# Altium footprint library QFN-40.PcbLib: 1 footprints
Each footprint in its own frame and in the unit in brackets; x right, y up, seen from the top. Pads: shape width x height; smd on the part's side, far side on the other; paste and mask are expansions set on the pad; w line width, h text height; cw(c..) or ccw(c..) is an arc to the next point about the centre after c.
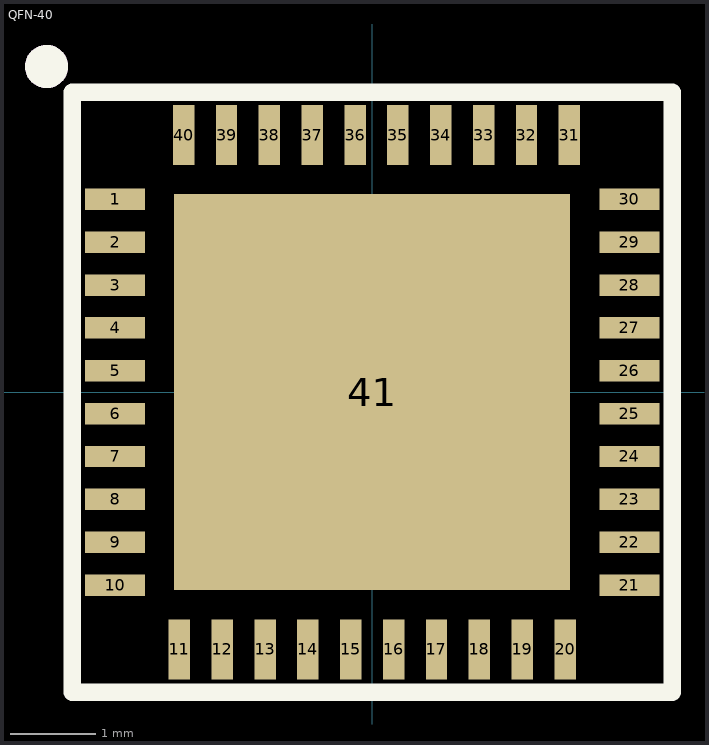
[diagram p0: the footprint, top view; thin cyan lines are the x and y axes]

## QFN-40 [mm]
height 0.55
pads (41):
  rect 0.7x0.25 smd mask+0.05: 1(-3,2.25) 2(-3,1.75) 3(-3,1.25) 4(-3,0.75) 5(-3,0.25) 6(-3,-0.25) 7(-3,-0.75) 8(-3,-1.25) 9(-3,-1.75) 10(-3,-2.25) 21(3,-2.25) 22(3,-1.75) 23(3,-1.25) 24(3,-0.75) 25(3,-0.25) 26(3,0.25) 27(3,0.75) 28(3,1.25) 29(3,1.75) 30(3,2.25)
  rect 0.25x0.7 smd mask+0.05: 11(-2.25,-3) 12(-1.75,-3) 13(-1.25,-3) 14(-0.75,-3) 15(-0.25,-3) 16(0.25,-3) 17(0.75,-3) 18(1.25,-3) 19(1.75,-3) 20(2.25,-3) 31(2.3,3) 32(1.8,3) 33(1.3,3) 34(0.8,3) 35(0.3,3) 36(-0.2,3) 37(-0.7,3) 38(-1.2,3) 39(-1.7,3) 40(-2.2,3)
  rect 4.62x4.62 smd mask+0.05: 41(0,0)
Top Overlay:
  circle w0.254: c-3.8,3.8 r0.125
  lines w0.2: -3.5,-3.5 -3.5,3.5 3.5,3.5 3.5,-3.5 -3.5,-3.5
Top Assembly:
  circle w0.254: c-3.8,3.8 r0.125
  lines w0.1: -3.5,-3.5 -3.5,3.5 3.5,3.5 3.5,-3.5 -3.5,-3.5
  text "'.Designator'" at 0,0 h0.7
3D body "User Library-QFN40.STEP": height 0.84, standoff 0.04, extent -3,-3 3,3